# Altium schematic symbol library QTH-020-01-F-D-DP-A-K-TR.SchLib: 1 symbol
Pins are listed as number, name and electrical type; pins without a type are passive.

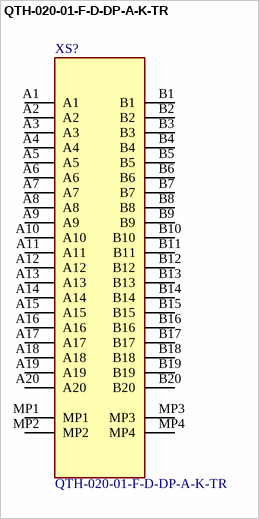
[diagram p0: symbol QTH-020-01-F-D-DP-A-K-TR]

## QTH-020-01-F-D-DP-A-K-TR
designator XS?
40 Position Connector Differential Pair Array, Male Surface Mount Gold; Manufacturer: SAMTEC; Datasheet Link: http://suddendocs.samtec.com/prints/qth-xxx-xx-x-d-dp-xxx-mkt.pdf; Height - Seated (Max): 4.064mm; Part Number: QTH-020-01-F-D-DP-A-K-TR; Mouser Part Number: 200-QTH02001FDDPAKTR; Mouser Price/Stock: https://www.mouser.co.uk/ProductDetail/Samtec/QTH-020-01-F-D-DP-A-K-TR?qs=rU5fayqh%252BE09uiYWP2GAZw%3D%3D; Arrow Part Number: QTH-020-01-F-D-DP-A-K-TR; Arrow Price/Stock: https://www.arrow.com/en/products/qth-020-01-f-d-dp-a-k-tr/samtec?region=nac
footprint QTH02001FDDPAKTR
pins: A1, A2, A3, A4, A5, A6, A7, A8, A9, A10, A11, A12, A13, A14, A15, A16, A17, A18, A19, A20, B1, B2, B3, B4, B5, B6, B7, B8, B9, B10, B11, B12, B13, B14, B15, B16, B17, B18, B19, B20, MP1, MP2, MP3, MP4